# Altium footprint library CAP_4.7uF_630V.PcbLib: 1 footprints
Each footprint in its own frame and in the unit in brackets; x right, y up, seen from the top. Pads: shape width x height; smd on the part's side, far side on the other; paste and mask are expansions set on the pad; w line width, h text height; cw(c..) or ccw(c..) is an arc to the next point about the centre after c.
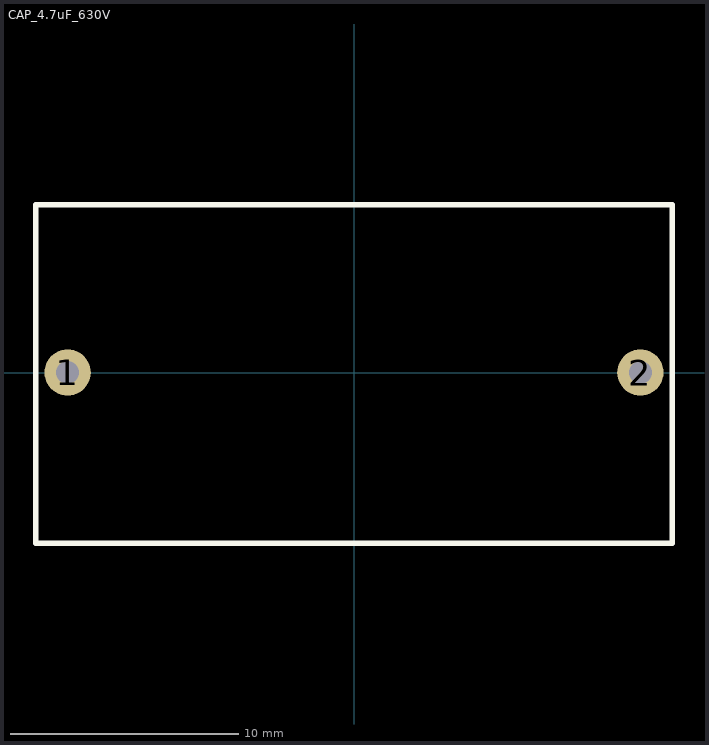
[diagram p0: the footprint, top view; thin cyan lines are the x and y axes]

## CAP_4.7uF_630V [mil]
pads (2):
  round 80 hole 40: 1(-495,0) 2(495,0)
Top Overlay:
  lines w10: -550,-295 550,-295 550,290 -550,290 -550,-295
3D body "SHX CBB21 4.75 uF 630V.STEP": height 1242.13, standoff -647.64, extent -526.57,-289.41 526.57,289.37